# EAGLE library part PE4259-63 (library PE4259-63)
SPDT High Power UltraCMOS 10 MHz3.0 GHz RF Switch Source: Datasheet <https://www.psemi.com/pdf/datasheets/pe4259ds.pdf>
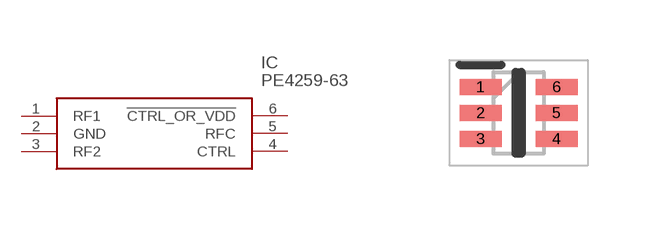
[diagram p0: symbol with the pads of SOT65P210X110-6N; footprint SOT65P210X110-6N]

Designator prefix IC

## PE4259-63 (Description: SPDT High Power UltraCMOS 10 MHz3.0 GHz RF Switch; Height: 1.1mm; Manufacturer_Name: Peregrine Semiconductor; Manufacturer_Part_Number: PE4259-63)  [SOT65P210X110-6N]
1  RF1
2  GND
3  RF2
4  CTRL
5  RFC
6  !CTRL_OR_VDD

## Footprint SOT65P210X110-6N (pad centres in mm)
6lead-sc-70
smd 1.05 x 0.4: 1 -0.95,0.65; 2 -0.95,0; 3 -0.95,-0.65; 4 0.95,-0.65; 5 0.95,0; 6 0.95,0.65